# Altium footprint library 28Pins_Project_V1I1_v4.PcbLib: 29 footprints (part 1 of 2)
Each footprint in its own frame and in the unit in brackets; x right, y up, seen from the top. Pads: shape width x height; smd on the part's side, far side on the other; paste and mask are expansions set on the pad; w line width, h text height; cw(c..) or ccw(c..) is an arc to the next point about the centre after c.
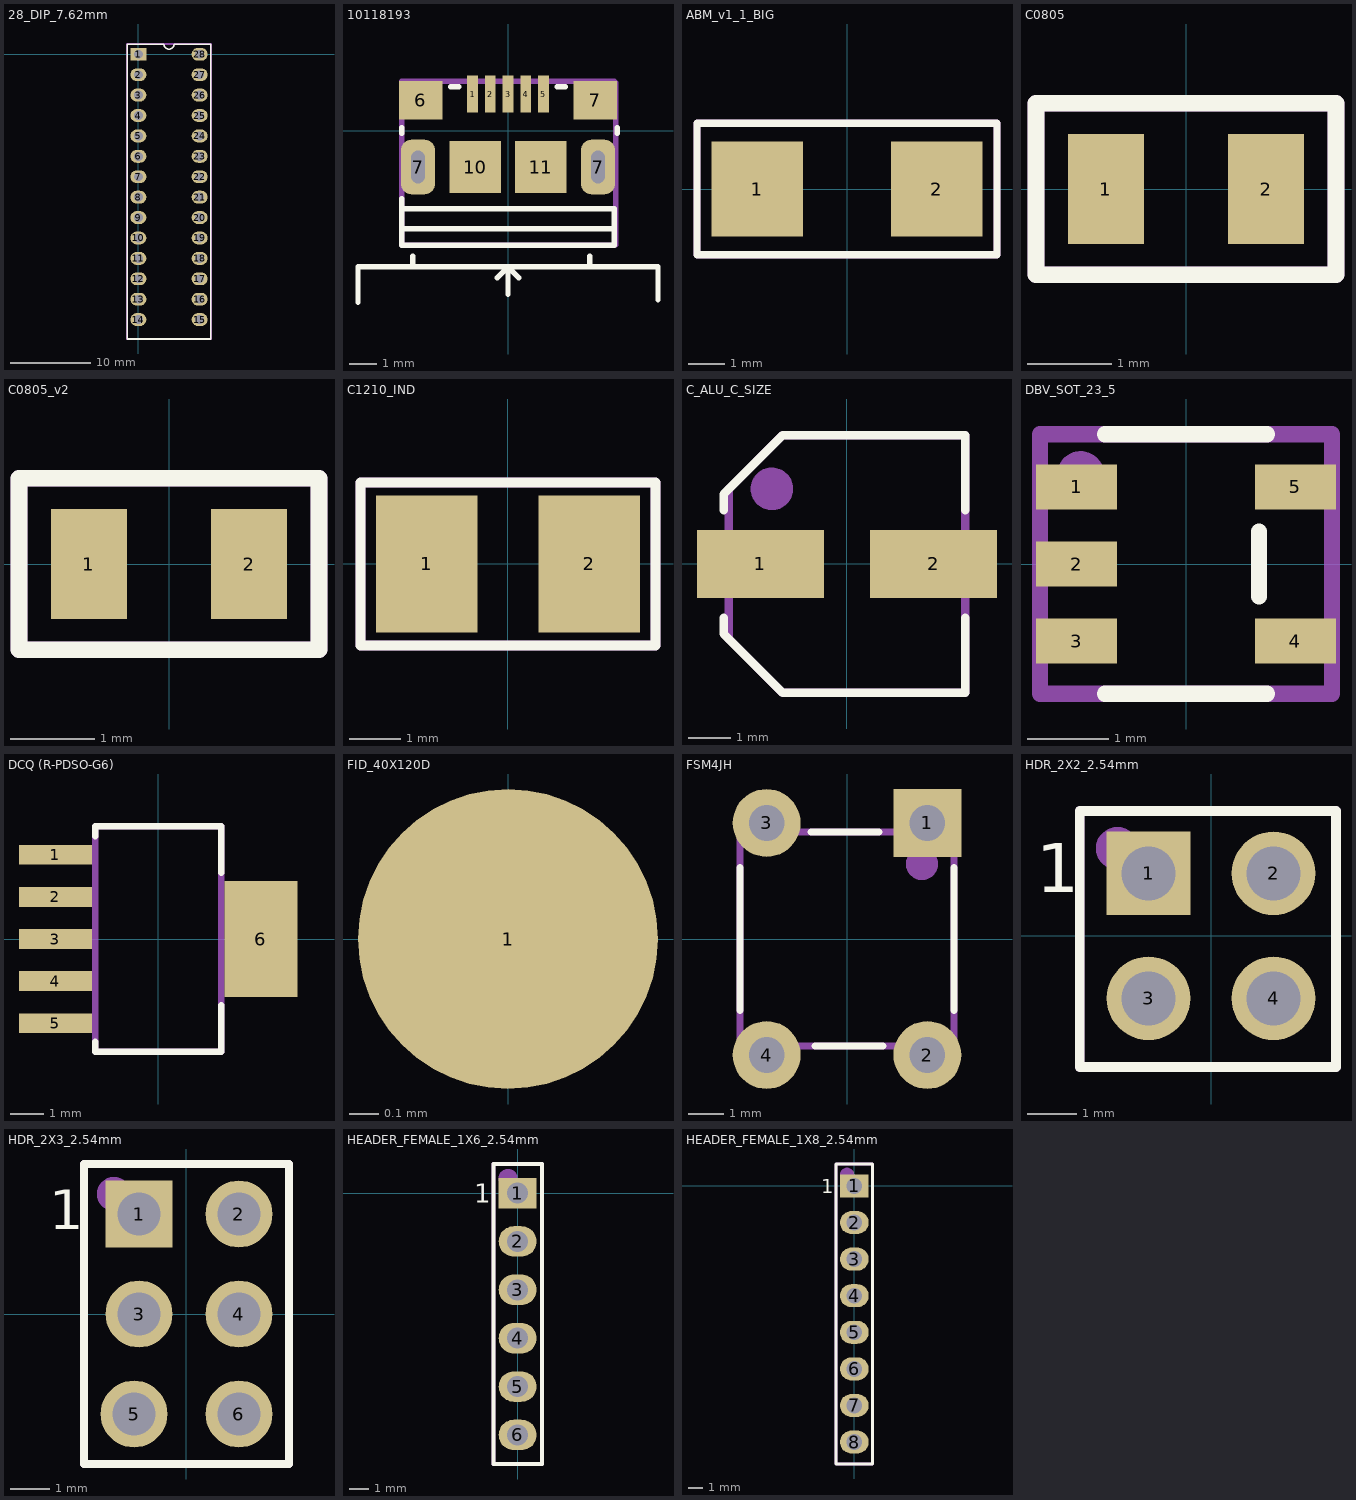
[diagram p0: the footprints below, top view; thin cyan lines are the x and y axes]

## 28_DIP_7.62mm [mm]
pads (28):
  rect 2x1.6 hole 1.1: 1(0,0)
  oval 2x1.6 hole 1.1: 2(0,-2.54) 3(0,-5.08) 4(0,-7.62) 5(0,-10.16) 6(0,-12.7) 7(0,-15.24) 8(0,-17.78) 9(0,-20.32) 10(0,-22.86) 11(0,-25.4) 12(0,-27.94) 13(0,-30.48) 14(0,-33.02) 15(7.62,-33.02) 16(7.62,-30.48) 17(7.62,-27.94) 18(7.62,-25.4) 19(7.62,-22.86) 20(7.62,-20.32) 21(7.62,-17.78) 22(7.62,-15.24) 23(7.62,-12.7) 24(7.62,-10.16) 25(7.62,-7.62) 26(7.62,-5.08) 27(7.62,-2.54) 28(7.62,0)
Top Overlay:
  lines w0.2: -1.397,-35.433 -1.397,1.27 3.175,1.27 ccw(c3.81,1.27) 4.445,1.27 9.017,1.27 9.017,-35.433 -1.397,-35.433
Mechanical 29:
  circle w0.5: c0,0 r0.508
  lines w0.254: -1.397,-35.433 9.017,-35.433 9.017,1.27 -1.397,1.27 -1.397,-35.433
  text ".Designator" at 4.318,-20.955 h3
3D body "User Library-28 pin dip.step": height 7.55, standoff 1.33, extent -0.254,-34.481 7.62,1.461

## 28_DIP_7.62MM_SOCKET [mm]
3D body "dil_socket.stp": height 4.2, standoff -3.17, extent -1.24,-34.26 8.86,1.24

## 10118193 [mm]
pads (11):
  rect 0.4x1.35 smd mask+0.05: 1(-1.3,1.338) 2(-0.65,1.338) 3(0,1.338) 4(0.65,1.338) 5(1.3,1.338)
  rect 1.6x1.4 smd: 6(-3.2,1.113) 7(3.2,1.113)
  rrect60% 1.25x2 hole 0.5 slot 1.2 at 90 deg: 7(-3.3,-1.337) 7(3.3,-1.337)
  rect 1.9x1.9 smd: 10(-1.2,-1.337) 11(1.2,-1.337)
Top Overlay:
  lines w0.2: -5.5,-6.3 -5.5,-5 5.5,-5 5.5,-6.2 ; -3.9,-3.6 3.9,-3.6 ; -3.9,-2.875 3.9,-2.875 3.9,-4.2 -3.9,-4.2 -3.9,-2.5 ; -3.9,-0.1 -3.9,0.1 ; -3.5,-5 -3.5,-4.6 ; -2.1,1.6 -1.8,1.6 ; -0.4,-5.4 0,-5 ; 0,-6 0,-5 ; 0.4,-5.4 0,-5 ; 1.8,1.6 2.1,1.6 ; 3,-5 3,-4.6 ; 4,-0.1 4,0.1
Mechanical 29:
  lines w0.2: -3.903,-4.196 3.953,-4.196 3.953,1.747 3.9,1.8 -3.903,1.8 -3.903,-4.196
  text ".Designator" at 0,-0.1 h0.6
3D body "10118193-0001lfc.stp": height 2.88, standoff -0.92, extent -3.903,-4.196 3.953,1.588

## ABM_v1_1_BIG [mm]
pads (2):
  rect 2.5x2.6 smd: 1(-2.45,0) 2(2.45,0)
Top Overlay:
  lines w0.2: -4.1,-1.8 -4.1,-0.2 -4.1,1.8 -2.45,1.8 2.25,1.8 4.1,1.8 4.1,-1.8 2.45,-1.8 -2.45,-1.8 -4.1,-1.8
Mechanical 29:
  lines w0.2: -4.1,-1.8 4.1,-1.8 4.1,1.8 -4.1,1.8 -4.1,-1.8
  text ".Designator" at -3.2,-0.3 h1.52
3D body "ABM7.STEP": height 1.41, standoff 0.01, extent -2.897,-1.752 3.097,1.753
3D body: height 1.45, standoff 1.4, extent -2.4,-1.4 2.6,1.4

## C0805 [mm]
pads (2):
  rect 0.9x1.3 smd: 1(-0.95,0) 2(0.95,0)
Top Overlay:
  lines w0.2: -1.778,-1.016 1.778,-1.016 1.778,1.016 -1.778,1.016 -1.778,-1.016
Mechanical 29:
  lines w0.2: -1.778,-1.016 1.778,-1.016 1.778,1.016 -1.778,1.016 -1.778,-1.016
  text ".Designator" at -1.27,-0.254 h0.6
3D body "CAPC2012X94N EIA 0805.step": height 0.95, standoff 0.01, extent -1,-0.6 1,0.6

## C0805_v2 [mm]
pads (2):
  rect 0.9x1.3 smd: 1(-0.95,0) 2(0.95,0)
Top Overlay:
  lines w0.2: -1.778,-1.016 -1.778,1.016 1.778,1.016 1.778,-1.016 -1.778,-1.016
Mechanical 29:
  lines w0.2: -1.778,-1.016 -1.778,1.016 1.778,1.016 1.778,-1.016 -1.778,-1.016
  text ".Designator" at -1.27,-0.254 h0.6
3D body "CAPC2012X94N EIA 0805.step": height 0.95, standoff 0.01, extent -1,-0.6 1,0.6
3D body "CAPC2012X94N EIA 0805.step": height 1.45, standoff 0.51, extent -1,-0.6 1,0.6

## C1210_IND [mm]
pads (2):
  rect 2x2.7 smd: 1(-1.6,0) 2(1.6,0)
Top Overlay:
  lines w0.2: -2.9,-1.6 2.9,-1.6 2.9,1.6 -2.9,1.6 -2.9,-1.6
Mechanical 29:
  lines w0.2: -2.9,-1.6 2.9,-1.6 2.9,1.6 -2.9,1.6 -2.9,-1.6
  text ".Designator" at -0.2,-0.1 h0.6
3D body: height 2.7, standoff -0.01, extent -1.5,-1.25 -1.3,1.25
3D body: height 2.7, standoff -0.01, extent 1.3,-1.25 1.5,1.25
3D body: height 2.7, standoff -0.01, extent -1.3,-1.25 1.3,1.25

## C_ALU_C_SIZE [mm]
pads (2):
  rect 3x1.6 smd: 1(-2.05,0) 2(2.05,0)
Top Overlay:
  lines w0.2: -2.921,-1.27 -2.921,-1.651 -1.524,-3.048 -0.508,-3.048 2.794,-3.048 2.794,-1.27 ; -2.921,1.27 -2.921,1.651 -1.524,3.048 -0.508,3.048 2.794,3.048 2.794,1.27
Mechanical 29:
  circle w0.5: c-1.778,1.778 r0.254
  lines w0.2: -2.794,-1.778 -1.524,-3.048 2.794,-3.048 2.794,-1.27 2.794,1.27 2.794,3.048 -1.524,3.048 -2.794,1.778 -2.794,1.27 -2.794,-1.27 -2.794,-1.778
  text ".Designator" at -0.254,-1.778 h0.6
3D body "User Library-capacitor size C.step": height 5.41, standoff -0.01, extent -2.95,-2.65 2.95,2.65

## DBV_SOT_23_5 [mm]
pads (5):
  rect 1x0.55 smd: 1(-1.35,0.95) 2(-1.35,0) 3(-1.35,-0.95) 4(1.35,-0.95) 5(1.35,0.95)
Top Overlay:
  lines w0.2: -1,-1.6 1,-1.6 ; -1,1.6 1,1.6 ; 0.9,-0.4 0.9,0.4
Mechanical 29:
  circle w0.3: c-1.3,1.1 r0.141
  lines w0.2: -1.8,-1.6 1.8,-1.6 1.8,1.6 -1.8,1.6 -1.8,-1.6
  text ".Designator" at -0.1,-0.1 h0.9
3D body "User Library-TPS79333DBVR.step": height 1.61, standoff -0.01, extent -1.514,-1.525 1.514,1.525

## DCQ (R-PDSO-G6) [mm]
pads (6):
  rect 2.2x0.6 smd: 1(-3.1,2.54) 2(-3.1,1.27) 3(-3.1,0) 4(-3.1,-1.27) 5(-3.1,-2.54)
  rect 2.2x3.5 smd: 6(3.1,0)
Top Overlay:
  lines w0.2: -1.9,-3.1 -1.9,-3.4 1.9,-3.4 1.9,-2 ; -1.9,3.1 -1.9,3.4 1.9,3.4 1.9,2
Mechanical 29:
  lines w0.2: -1.9,-3.4 -1.9,3.4 1.9,3.4 1.9,-3.4 -1.9,-3.4
  text ".Designator" at -0.1,-0.1 h0.6
3D body "User Library-TPS73701DCQ.step": height 1.79, standoff -0.01, extent -3.73,-3.275 3.53,3.275

## FID_40X120D [mil]
pads (1):
  round 40 smd paste+0 mask+40: 1(0,0)

## FSM4JH [mm]
pads (4):
  rect 1.9x1.9 hole 1: 1(2.25,3.25)
  round 1.9 hole 1: 2(2.25,-3.25) 3(-2.25,3.25) 4(-2.25,-3.25)
Top Overlay:
  lines w0.2: -3,-2 -3,2 ; -1,3 0.9,3 ; -0.9,-3 1,-3 ; 3,-2 3,2
Mechanical 29:
  circle w0.5: c2.1,2.1 r0.2
  lines w0.2: -3,-3 -3,3 3,3 3,-3 -3,-3
3D body "User Library-FSM4JLH(1825910-5).step": height 5, standoff -3.51, extent -2.995,-3.798 2.995,4

## HDR_2X2_2.54mm [mm]
pads (4):
  rect 1.7x1.7 hole 1.1: 1(-1.27,1.27)
  round 1.7 hole 1.1: 2(1.27,1.27) 3(-1.27,-1.27) 4(1.27,-1.27)
Top Overlay:
  lines w0.2: -0.635,2.54 2.54,2.54 2.54,-2.667 -2.667,-2.667 -2.667,0.635 -2.667,2.54 0.635,2.54
  text "1" at -3.556,0.889 h1
Mechanical 29:
  circle w0.508: c-1.905,1.778 r0.18
  lines w0.2: -2.667,-2.667 -2.667,0 -2.667,2.54 2.54,2.54 2.54,-2.667 -2.667,-2.667
  text ".Designator" at -0.889,-0.254 h1.52
3D body "961204-6404-XX.stp": height 7.5, standoff -3.8, extent -2.54,-2.54 2.54,2.46

## HDR_2X3_2.54mm [mm]
pads (6):
  rect 1.7x1.7 hole 1.1: 1(-1.206,2.54)
  round 1.7 hole 1.1: 2(1.333,2.54) 3(-1.206,0) 4(1.333,0) 5(-1.333,-2.54) 6(1.333,-2.54)
Top Overlay:
  lines w0.2: -0.572,3.81 2.603,3.81 2.603,-3.81 -2.603,-3.81 -2.603,1.905 -2.603,3.81 0.699,3.81
  text "1" at -3.492,2.159 h1
Mechanical 29:
  circle w0.508: c-1.841,3.048 r0.18
  lines w0.2: -2.603,-3.81 2.603,-3.81 2.603,3.81 -2.603,3.81 -2.603,1.27 -2.603,-3.81
  text ".Designator" at -0.254,-1.524 h1.52
3D body "961206-6404-XX.stp": height 7.5, standoff -3.8, extent -2.5,-3.81 2.5,3.81

## HEADER_FEMALE_1X6_2.54mm [mm]
pads (6):
  rect 2x1.6 hole 1.1: 1(0,0)
  oval 2x1.6 hole 1.1: 2(0,-2.54) 3(0,-5.08) 4(0,-7.62) 5(0,-10.16) 6(0,-12.7)
Top Overlay:
  lines w0.2: -1.27,-13.97 -1.27,1.524 0,1.524 1.27,1.524 1.27,-13.97 1.27,-14.224 ; -1.27,-13.716 -1.27,-14.224 ; -1.27,-14.224 -0.635,-14.224 -0.318,-14.224 0.318,-14.224 0.635,-14.224 1.27,-14.224 ; -1.27,-14.224 1.27,-14.224
  text "1" at -2.286,-0.508 h1
Mechanical 29:
  circle w0.5: c-0.508,0.762 r0.254
  lines w0.2: -1.27,-14.224 -1.27,1.524 1.27,1.524 1.27,-14.224 -1.27,-14.224
  text ".Designator" at 0.508,-12.446 h1.52
3D body "m20-7820646_asm.stp": height 8.31, standoff -3.19, extent -1.2,-14.12 1.3,1.52

## HEADER_FEMALE_1X8_2.54mm [mm]
pads (8):
  rect 2x1.6 hole 1.1: 1(0,0)
  oval 2x1.6 hole 1.1: 2(0,-2.54) 3(0,-5.08) 4(0,-7.62) 5(0,-10.16) 6(0,-12.7) 7(0,-15.24) 8(0,-17.78)
Top Overlay:
  lines w0.2: -1.27,-19.304 -0.635,-19.304 0.635,-19.304 1.27,-19.304 1.27,1.524 0,1.524 -1.27,1.524 -1.27,-19.304
  text "1" at -2.286,-0.508 h1
Mechanical 29:
  circle w0.5: c-0.508,0.762 r0.254
  lines w0.2: -1.27,-19.304 1.27,-19.304 1.27,1.524 -1.27,1.524 -1.27,-19.304
  text ".Designator" at 0.508,-16.256 h1.52
3D body "m20-7820842_asm.stp": height 8.31, standoff -3.19, extent -1.2,-19.26 1.3,1.46